# EAGLE library part TPS61088 (library 0_Library Rev1)
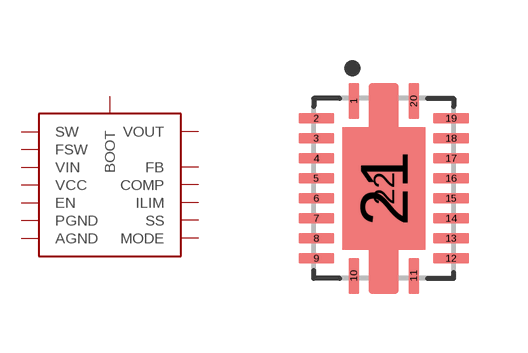
[diagram p8: symbol with the pads of QFN50P450X350X100-21N; footprint QFN50P450X350X100-21N]

Designator prefix -

## TPS61088  [QFN50P450X350X100-21N]
1  VCC
2  EN
3  FSW
4  SW
5  SW
6  SW
7  SW
8  BOOT
9  VIN
10  SS
13  MODE
14  VOUT
15  VOUT
16  VOUT
17  FB
18  COMP
19  ILIM
20  AGND
21  PGND
22  PGND

## Footprint QFN50P450X350X100-21N (pad centres in mm)
smd 0.26 x 0.9: 1 -0.75,2.185; 10 -0.75,-2.185; 11 0.75,-2.185; 20 0.75,2.185
smd 0.9 x 0.26: 2 -1.685,1.75; 3 -1.685,1.25; 4 -1.685,0.75; 5 -1.685,0.25; 6 -1.685,-0.25; 7 -1.685,-0.75; 8 -1.685,-1.25; 9 -1.685,-1.75; 12 1.685,-1.75; 13 1.685,-1.25; 14 1.685,-0.75; 15 1.685,-0.25; 16 1.685,0.25; 17 1.685,0.75; 18 1.685,1.25; 19 1.685,1.75
smd 2.07 x 3.07: 21 0,0
smd 0.75 x 5.27: 22 0,0